# Altium footprint library nanoDAP.PcbLib: 16 footprints
Each footprint in its own frame and in the unit in brackets; x right, y up, seen from the top. Pads: shape width x height; smd on the part's side, far side on the other; paste and mask are expansions set on the pad; w line width, h text height; cw(c..) or ccw(c..) is an arc to the next point about the centre after c.
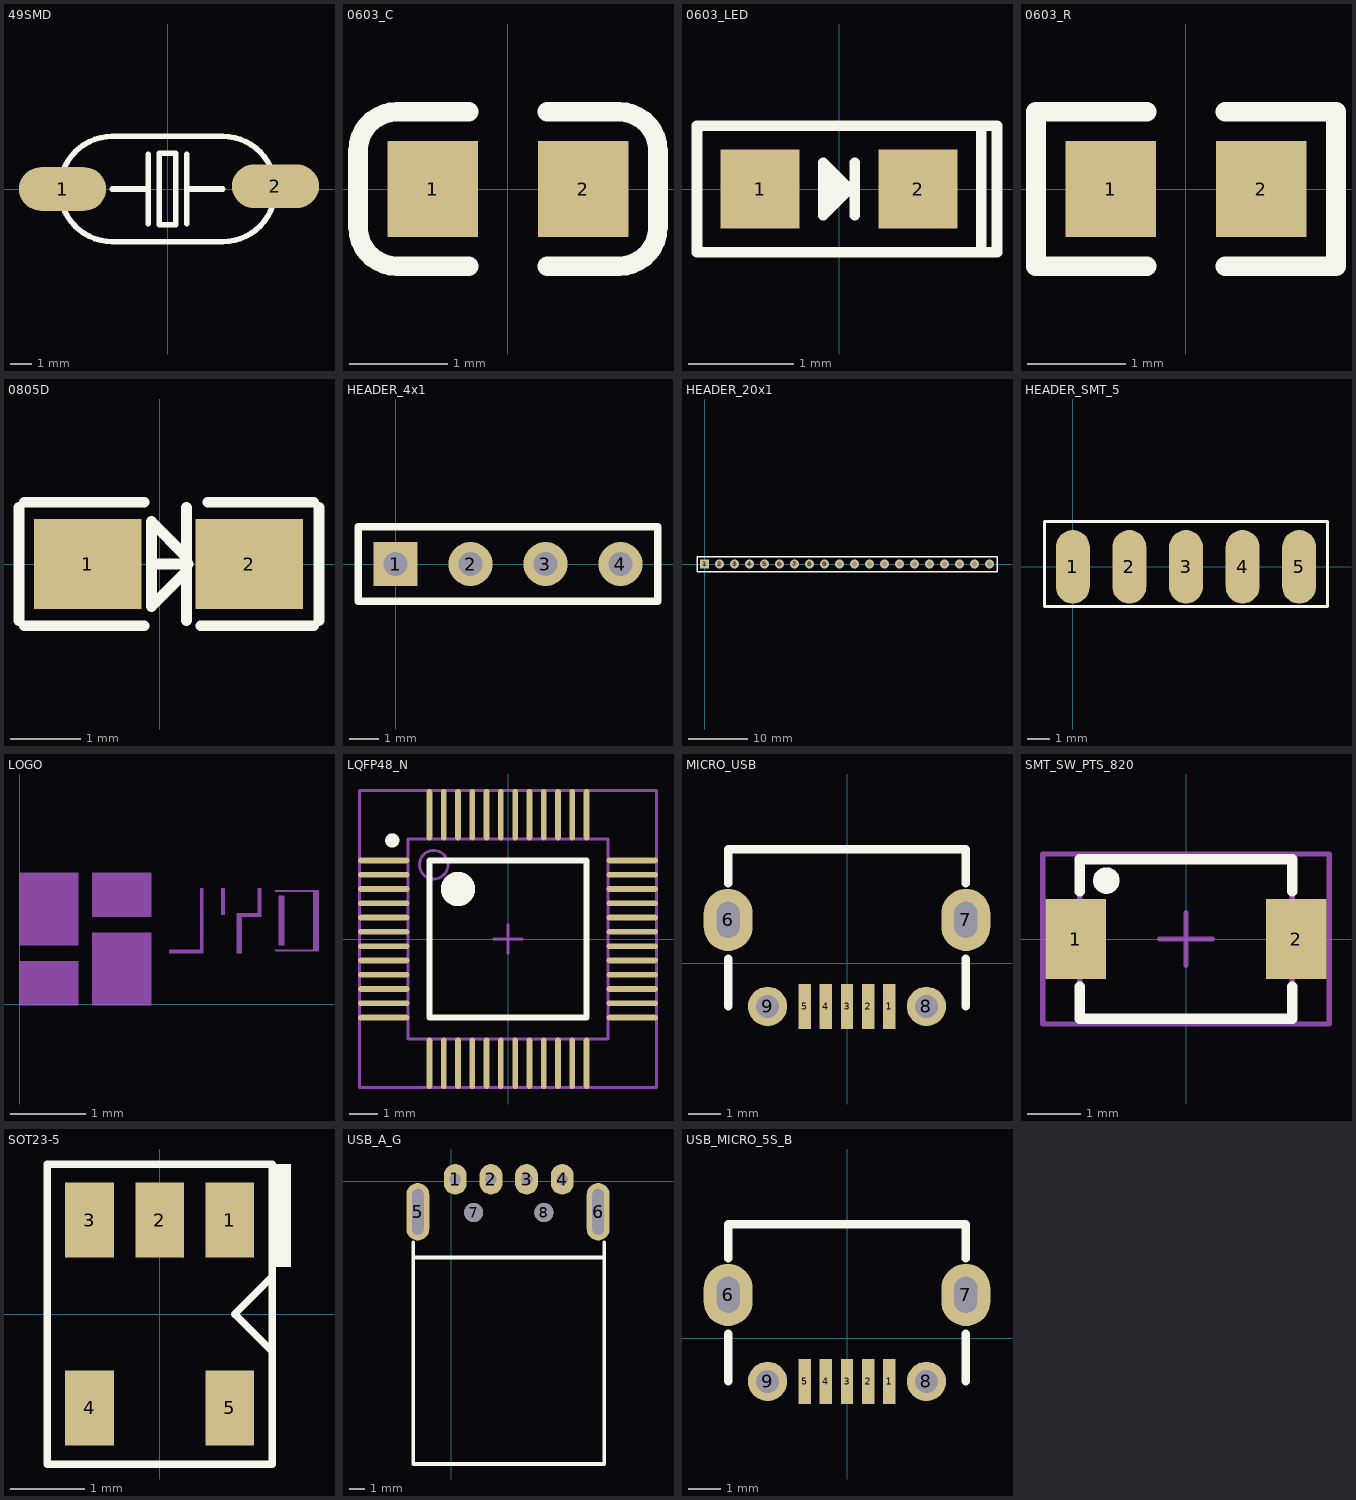
[diagram p0: the footprints below, top view; thin cyan lines are the x and y axes]

## 49SMD [mm]
pads (2):
  oval 4x2 smd: 1(-4.826,0) 2(4.953,0.127)
Top Overlay:
  lines w0.254: -2.54,0 -0.889,0 ; -0.889,-1.606 -0.889,1.606 ; 0.889,-1.606 0.889,1.606 ; 0.889,0 2.54,0 ; -2.54,-2.413 cw(c-2.54,0) -2.54,2.413 2.54,2.413 cw(c2.54,0) 2.54,-2.413 -2.54,-2.413 ; -0.381,-1.651 -0.381,1.651 0.381,1.651 0.381,-1.651 -0.381,-1.651

## 0603_C [mm]
pads (2):
  rect 0.93x0.98 smd: 1(-0.77,0) 2(0.77,0)
Top Overlay:
  lines w0.2: -0.4,-0.79 -1.135,-0.79 cw(c-1.135,-0.39) -1.535,-0.39 -1.535,0.39 cw(c-1.135,0.39) -1.135,0.79 -0.4,0.79 ; 0.4,-0.79 1.135,-0.79 ccw(c1.135,-0.39) 1.535,-0.39 1.535,0.39 ccw(c1.135,0.39) 1.135,0.79 0.4,0.79
3D body "User Library-0603 SMD Capacitor.STEP": height 0.3, standoff 0, extent -0.8,-0.4 0.8,0.4

## 0603_LED [mm]
pads (2):
  rect 0.75x0.75 smd: 1(-0.75,0) 2(0.75,0)
Top Overlay:
  region: -0.15,0.25 -0.15,-0.25 0.1,0
  lines w0.1: 0.15,-0.25 0.15,0.25 ; 0.15,-0.05 -0.15,0.25 -0.15,-0.25 0.15,0.05 ; 1.35,-0.6 1.5,-0.6 1.5,0.6 1.35,0.6 ; 1.35,-0.6 -1.35,-0.6 -1.35,0.6 1.35,0.6 ; 1.35,-0.6 1.35,0.6

## 0603_R [mm]
pads (2):
  rect 0.93x0.98 smd: 1(-0.77,0) 2(0.77,0)
Top Overlay:
  lines w0.2: -0.4,-0.79 -1.535,-0.79 -1.535,0.79 -0.4,0.79 ; 0.4,-0.79 1.535,-0.79 1.535,0.79 0.4,0.79
3D body "User Library-RES_1609-0603.STEP": height 0.56, standoff 0, extent -0.85,-0.4 0.85,0.4

## 0805D [mil]
pads (2):
  rect 60x50 smd: 1(-40,0) 2(50,0)
Top Overlay:
  lines w6.06: -78.43,-31.5 -78.43,31.5 ; -75.43,-34.5 -8.5,-34.5 ; -75.43,34.5 -8.5,34.5 ; -4.25,0 15.87,0 ; 15.05,-4 -4.57,-23.62 -4.57,23.62 15.12,3.94 ; 15.12,-31.56 15.12,31.43 ; 22.99,-34.5 85.98,-34.5 ; 26.93,34.5 85.98,34.5 ; 88.98,-31.5 88.98,31.5

## HEADER_4x1 [mm]
pads (4):
  rect 1.5x1.5 hole 0.8: 1(0,0)
  round 1.5 hole 0.8: 2(2.54,0) 3(5.08,0) 4(7.62,0)
Top Overlay:
  lines w0.254: -1.27,-1.27 8.89,-1.27 8.89,1.27 -1.27,1.27 -1.27,-1.27

## HEADER_20x1 [mm]
pads (20):
  rect 1.5x1.5 hole 0.8: 1(0,0)
  round 1.5 hole 0.8: 2(2.54,0) 3(5.08,0) 4(7.62,0) 5(10.16,0) 6(12.7,0) 7(15.24,0) 8(17.78,0) 9(20.32,0) 10(22.86,0) 11(25.4,0) 12(27.94,0) 13(30.48,0) 14(33.02,0) 15(35.56,0) 16(38.1,0) 17(40.64,0) 18(43.18,0) 19(45.72,0) 20(48.26,0)
Top Overlay:
  lines w0.254: -1.27,-1.27 -1.27,1.27 49.53,1.27 49.53,-1.27 -1.27,-1.27

## HEADER_SMT_5 [mil]
pads (5):
  oval 60x130 smd: 1(0,0) 2(100,0) 3(200,0) 4(300,0) 5(400,0)
Top Overlay:
  lines w5: -50,-70 -50,-30 -50,80 450,80 450,-70 -50,-70
3D body "1001-5.STEP": height 70, standoff -30, extent -50,-406.22 450,48.11

## LOGO [mm]
Top Solder:
  drawing of 275 lines, arcs and shapes, not listed

## LQFP48_N [mm]
pads (48):
  oval 1.8x0.2 smd: 1(-4.35,2.75) 2(-4.35,2.25) 3(-4.35,1.75) 4(-4.35,1.25) 5(-4.35,0.75) 6(-4.35,0.25) 7(-4.35,-0.25) 8(-4.35,-0.75) 9(-4.35,-1.25) 10(-4.35,-1.75) 11(-4.35,-2.25) 12(-4.35,-2.75) 25(4.35,-2.75) 26(4.35,-2.25) 27(4.35,-1.75) 28(4.35,-1.25) 29(4.35,-0.75) 30(4.35,-0.25) 31(4.35,0.25) 32(4.35,0.75) 33(4.35,1.25) 34(4.35,1.75) 35(4.35,2.25) 36(4.35,2.75)
  oval 0.2x1.8 smd: 13(-2.75,-4.35) 14(-2.25,-4.35) 15(-1.75,-4.35) 16(-1.25,-4.35) 17(-0.75,-4.35) 18(-0.25,-4.35) 19(0.25,-4.35) 20(0.75,-4.35) 21(1.25,-4.35) 22(1.75,-4.35) 23(2.25,-4.35) 24(2.75,-4.35) 37(2.75,4.35) 38(2.25,4.35) 39(1.75,4.35) 40(1.25,4.35) 41(0.75,4.35) 42(0.25,4.35) 43(-0.25,4.35) 44(-0.75,4.35) 45(-1.25,4.35) 46(-1.75,4.35) 47(-2.25,4.35) 48(-2.75,4.35)
Top Overlay:
  circle w0.25: c-4.05,3.45 r0.125
  circle w0.6: c-1.75,1.75 r0.3
  lines w0.2: -2.75,-2.75 -2.75,2.75 2.75,2.75 2.75,-2.75 -2.75,-2.75
Mechanical 13:
  circle w0.1: c-2.6,2.6 r0.5
  lines w0.1: -3.5,-3.5 -3.5,3.5 3.5,3.5 3.5,-3.5 -3.5,-3.5
Mechanical 15:
  lines w0.1: -0.5,0 0.5,0 ; 0,-0.5 0,0.5 ; -5.2,-5.2 -5.2,5.2 5.2,5.2 5.2,-5.2 -5.2,-5.2

## MICRO_USB [mil]
pads (9):
  rect 15x54 smd: 1(51,-52) 2(25.5,-52) 3(0,-52) 4(-25.5,-52) 5(-51,-52)
  oval 59.06x74.8 hole 27.56 slot 43.31 at 90 deg: 6(-143,52) 7(143,52)
  round 47.24 hole 27.5: 8(95.5,-52) 9(-95.5,-52)
Top Overlay:
  lines w10: -142.72,-52 -142.72,5.28 ; -142.72,95.72 -142.72,136.98 142.72,136.98 142.72,95.72 ; 142.72,-52 142.72,5.28
3D body "User Library-Micro USB-B_Molex_105017-0001.step": height 105.31, standoff -24.61, extent -161.42,-61.33 161.41,152.44

## PCBComponent_1 [mm]

## SMT_SW_PTS_820 [mm] "SMT Tactile ?Switch PTS 820 Series"
height 2
pads (4):
  rect 1.143x1.5 smd: 1(-2.075,0) 2(2.075,0)
  round 0 all layers, no hole paste-2.54 mask-2.54: MH1(0,0.9) MH2(0,-0.9)
Top Overlay:
  circle w0.25: c-1.5,1.1 r0.125
  lines w0.2: -2,-0.9 -2,-1.5 2,-1.5 2,-0.9 ; -2,0.9 -2,1.5 2,1.5 2,0.9
Mechanical 13:
  lines w0.1: -2,-1.5 -2,1.5 2,1.5 2,-1.5 -2,-1.5
Mechanical 15:
  lines w0.1: -0.5,0 0.5,0 ; 0,-0.5 0,0.5 ; -2.7,-1.6 -2.7,1.6 2.7,1.6 2.7,-1.6 -2.7,-1.6
3D body "SMT Tactile Switch PTS-820.STEP": height 2.05, standoff -0.5, extent -2.25,-1.55 2.25,1.55

## SOT23-5 [mil]
height 47.24
pads (5):
  rect 26x40 smd: 1(37.4,50) 2(0,50) 3(-37.4,50) 4(-37.4,-50) 5(37.4,-50)
Top Overlay:
  rectangle: 60,25 70,80
  lines w4: 60,-20 40,0 60,20 ; -60,-80 60,-80 60,80 -60,80 -60,-80

## USB_A_G [mil]
height 68.9
pads (8):
  oval 60x80 hole 30: 1(10,5) 2(103.33,5) 3(196.67,5) 4(290,5)
  oval 60x150 hole 30 slot 120 at 90 deg: 5(-88,-80) 6(384,-80)
  round 50 hole 50: 7(58,-82) 8(242,-82)
Top Overlay:
  lines w10: -100,-160 -100,-200 ; 400,-160 400,-200 ; -100,-200 400,-200 ; -100,-200 -100,-740 400,-740 400,-200
3D body "USB-AM-S-F-B-TH.STEP": height 177.95, standoff -46.46, extent -96.06,-778.11 396.07,10.47

## USB_MICRO_5S_B [mil]
pads (9):
  rect 15x54 smd: 1(51,-52) 2(25.5,-52) 3(0,-52) 4(-25.5,-52) 5(-51,-52)
  oval 59.06x74.8 hole 27.56 slot 43.31 at 90 deg: 6(-143,52) 7(143,52)
  round 47.24 hole 27.5: 8(95.5,-52) 9(-95.5,-52)
Top Overlay:
  lines w10: -142.72,-52 -142.72,5.28 ; -142.72,95.72 -142.72,136.98 142.72,136.98 142.72,95.72 ; 142.72,-52 142.72,5.28
3D body "User Library-Micro USB-B_Molex_105017-0001.step": height 105.31, standoff -24.61, extent -161.42,-61.33 161.41,152.44